# EAGLE library part TCAN33X (library can)
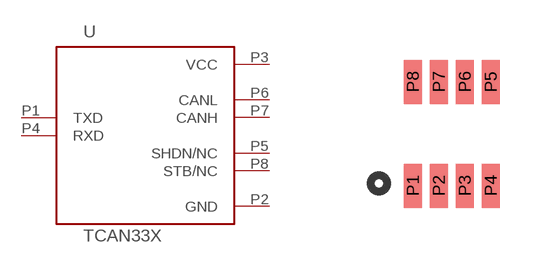
[diagram p4: symbol with the pads of 8-S0T-23; footprint 8-S0T-23]

Designator prefix -

## TCAN33X  [8-S0T-23]
P1  TXD
P2  GND
P3  VCC
P4  RXD
P5  SHDN/NC
P6  CANL
P7  CANH
P8  STB/NC

## Footprint 8-S0T-23 (pad centres in mm)
smd 0.45 x 1.1: P1 -0.975,-1.3; P2 -0.325,-1.3; P3 0.325,-1.3; P4 0.975,-1.3; P5 0.975,1.3; P6 0.325,1.3; P7 -0.325,1.3; P8 -0.975,1.3